# EAGLE library part E48SH12010NRFA (library dc-dc)
Eighth Brick, 48V input, single output, isolated DC/DC converter Datasheet <https://filecenter.deltaww.com/Products/download/01/0102/datasheet/DS_E48SH12010.pdf>
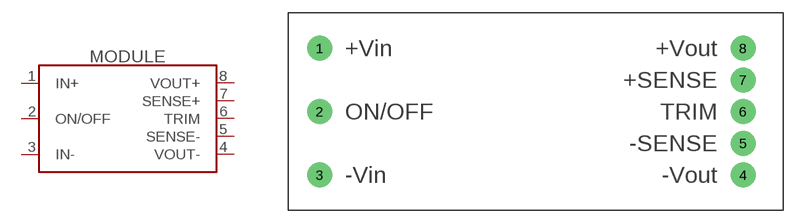
[diagram p28: symbol with the pads of E48SH; footprint E48SH]

Designator prefix MODULE

## E48SH12010NRFA (MANF: Delta electronics; MANF#: E48SH12010NRFA)  [E48SH]
1  IN+
2  ON/OFF
3  IN-
4  VOUT-
5  SENSE-
6  TRIM
7  SENSE+
8  VOUT+

## Footprint E48SH (pad centres in mm)
drill 1.6 pad 3: 1 -25.9,7.6; 2 -25.9,-0.02; 3 -25.9,-7.64
drill 2 pad 3: 4 24.9,-7.64; 5 24.9,-3.83; 6 24.9,-0.02; 7 24.9,3.79; 8 24.9,7.6